# EAGLE library part INA117M (library burr-brown)
High Common-Mode Voltage Difference Amplifier
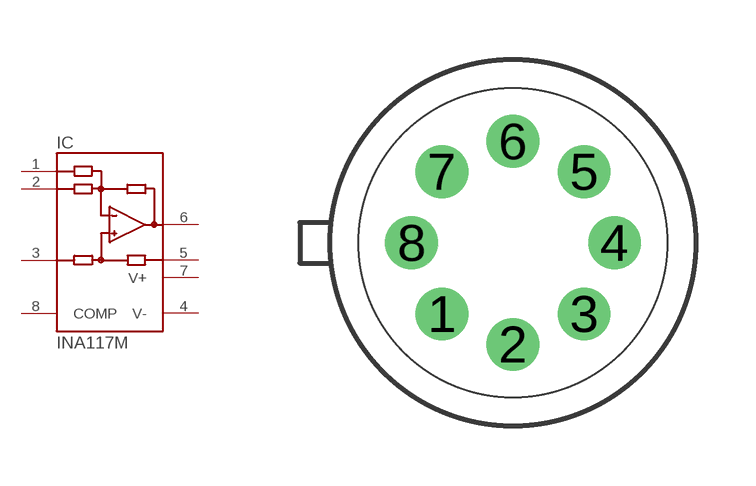
[diagram p247: symbol with the pads of TO-99; footprint TO-99]

Designator prefix IC

## INA117M  [TO-99]
1  REFB  in
2  -IN  in
3  +IN  in
4  V-  pwr
5  REFA  in
6  OUT  out
7  V+  pwr
8  COMP  pas

## Footprint TO-99 (pad centres in mm)
drill 0.813: 1 -1.778,-1.778; 2 0,-2.54; 3 1.778,-1.778; 4 2.54,0; 5 1.778,1.778; 6 0,2.54; 7 -1.778,1.778; 8 -2.54,0